# EAGLE library part 53048-1010 (library molex-pico)
HEADER
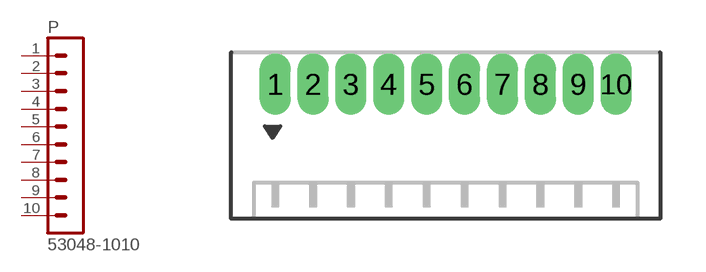
[diagram p14: symbol with the pads of 53048-1010; footprint 53048-1010]

Designator prefix P

## 53048-1010  [53048-1010]
1  1  pas
2  2  pas
3  3  pas
4  4  pas
5  5  pas
6  6  pas
7  7  pas
8  8  pas
9  9  pas
10  10  pas

## Footprint 53048-1010 (pad centres in mm)
HEADER
drill 0.508 long: 1 -5.625,0; 2 -4.375,0; 3 -3.125,0; 4 -1.875,0; 5 -0.625,0; 6 0.625,0; 7 1.875,0; 8 3.125,0; 9 4.375,0; 10 5.625,0